# EAGLE library part DRA818A (library dorji)
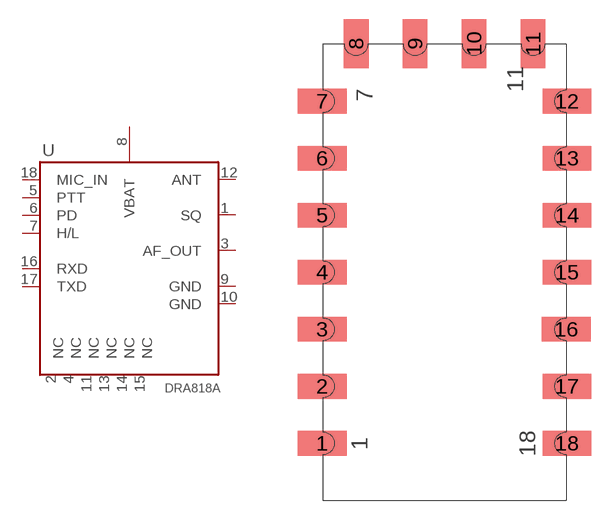
[diagram p0: symbol with the pads of DRA818A; footprint DRA818A]

Designator prefix -

## DRA818A  [DRA818A]
1  SQ
2  NC
3  AF_OUT
4  NC
5  PTT
6  PD
7  H/L
8  VBAT
9  GND
10  GND
11  NC
12  ANT
13  NC
14  NC
15  NC
16  RXD
17  TXD
18  MIC_IN

## Footprint DRA818A (pad centres in mm)
smd 3.81 x 1.93: 1 -9.45,-13.25; 2 -9.45,-8.8; 3 -9.45,-4.35; 4 -9.45,0.1; 5 -9.45,4.55; 6 -9.45,9; 7 -9.45,13.45; 12 9.65,13.45; 13 9.65,9; 14 9.65,4.55; 15 9.65,0.1; 16 9.6,-4.35; 17 9.65,-8.8; 18 9.65,-13.25
smd 1.93 x 3.81: 8 -6.8,17.95; 9 -2.2,17.95; 10 2.4,17.95; 11 7,17.95